# Altium schematic symbol library TE178489-1.SchLib: 1 symbol
Pins are listed as number, name and electrical type; pins without a type are passive.

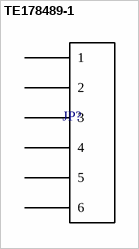
[diagram p0: symbol TE178489-1]

## TE178489-1
designator JP?  (value not drawn)
PartNumber: 178489-1; Manufacturer: TE Connectivity; PartDescription: CONN HEADER VERT 6POS 3.96MM; Supplier 1: Digi-Key; Supplier Part Number 1: A122369-ND; Package Type: 6 TH
footprint TE_178489-1
pins: 1, 2, 3, 4, 5, 6